# EAGLE library part MOLEX-43045XXXX (library J-Molex-043045XXXX-Dual-Row-Connector)
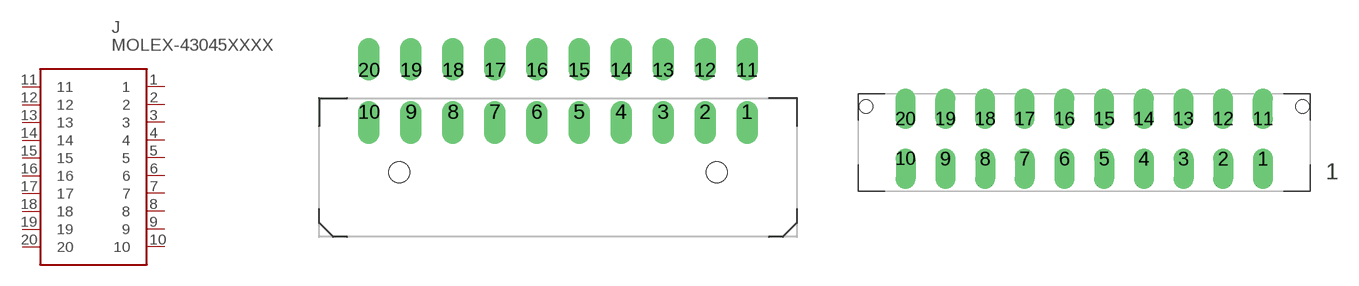
[diagram p0: symbol with the pads of 0430452000; footprints 0430452000, 0430452012]

Designator prefix J

## MOLEX-43045XXXXRIGHTANGLE  [0430452000]
1  1
2  2
3  3
4  4
5  5
6  6
7  7
8  8
9  9
10  10
11  11
12  12
13  13
14  14
15  15
16  16
17  17
18  18
19  19
20  20

## MOLEX-43045XXXXVERTICAL  [0430452012]
Pads as for 0430452000

## Footprint 0430452000 (pad centres in mm)
drill 1.02 offset: 1 13.5,-1.5; 2 10.5,-1.5; 3 7.5,-1.5; 4 4.5,-1.5; 5 1.5,-1.5; 6 -1.5,-1.5; 7 -4.5,-1.5; 8 -7.5,-1.5; 9 -10.5,-1.5; 10 -13.5,-1.5; 11 13.5,1.5; 12 10.5,1.5; 13 7.5,1.5; 14 4.5,1.5; 15 1.5,1.5; 16 -1.5,1.5; 17 -4.5,1.5; 18 -7.5,1.5; 19 -10.5,1.5; 20 -13.5,1.5
hole 1.5 at -11.35,-5.82
hole 1.5 at 11.35,-5.82

## Footprint 0430452012 (pad centres in mm)
drill 1.02 offset: 1 13.5,-1.5; 2 10.5,-1.5; 3 7.5,-1.5; 4 4.5,-1.5; 5 1.5,-1.5; 6 -1.5,-1.5; 7 -4.5,-1.5; 8 -7.5,-1.5; 9 -10.5,-1.5; 10 -13.5,-1.5; 11 13.5,1.5; 12 10.5,1.5; 13 7.5,1.5; 14 4.5,1.5; 15 1.5,1.5; 16 -1.5,1.5; 17 -4.5,1.5; 18 -7.5,1.5; 19 -10.5,1.5; 20 -13.5,1.5
hole 1.02 at 16.5,2.44
hole 1.02 at -16.5,2.44